# Altium footprint library POT.PcbLib: 1 footprints
Each footprint in its own frame and in the unit in brackets; x right, y up, seen from the top. Pads: shape width x height; smd on the part's side, far side on the other; paste and mask are expansions set on the pad; w line width, h text height; cw(c..) or ccw(c..) is an arc to the next point about the centre after c.
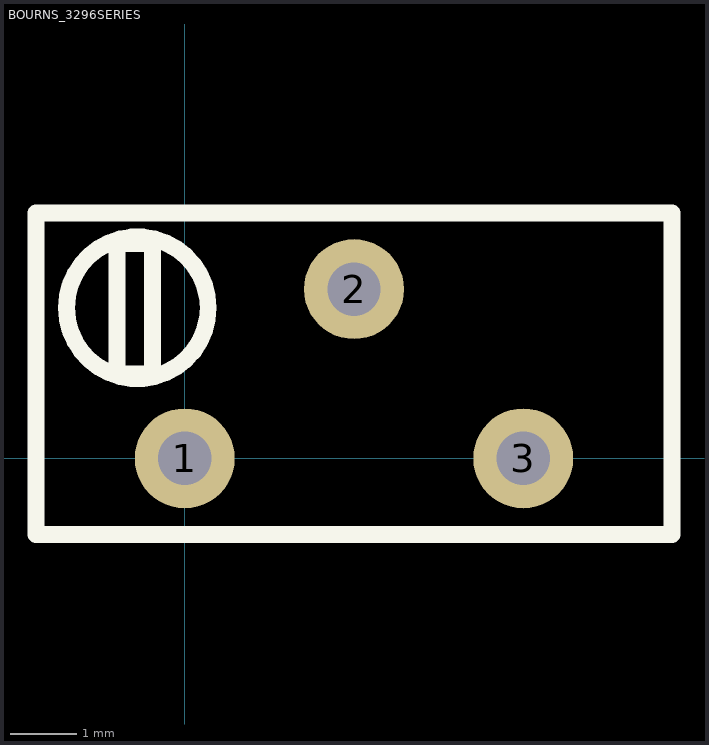
[diagram p0: the footprint, top view; thin cyan lines are the x and y axes]

## BOURNS_3296SERIES [mm]
pads (3):
  round 1.5 hole 0.8 unplated: 1(0,0) 2(2.54,2.54) 3(5.08,0)
Top Overlay:
  circle w0.254: c-0.711,2.261 r1.064
  lines w0.254: -1.041,3.226 -1.016,3.226 ; -1.016,3.226 -1.016,1.27 -0.483,1.27 -0.483,3.226 -1.016,3.226 ; -2.235,-1.143 -2.235,3.683 7.315,3.683 7.315,-1.143 -2.235,-1.143
TopAssy:
  lines w0.1: -2.225,-1.15 7.3,-1.15 7.3,3.675 -2.225,3.675 -2.225,-1.15
3D body "3296Y.stp": height 11.57, standoff -6.38, extent -2.222,-1.143 7.303,3.683